# Altium footprint library FootprintsPersonals.PcbLib: 152 footprints (part 7 of 10)
Each footprint in its own frame and in the unit in brackets; x right, y up, seen from the top. Pads: shape width x height; smd on the part's side, far side on the other; paste and mask are expansions set on the pad; w line width, h text height; cw(c..) or ccw(c..) is an arc to the next point about the centre after c.
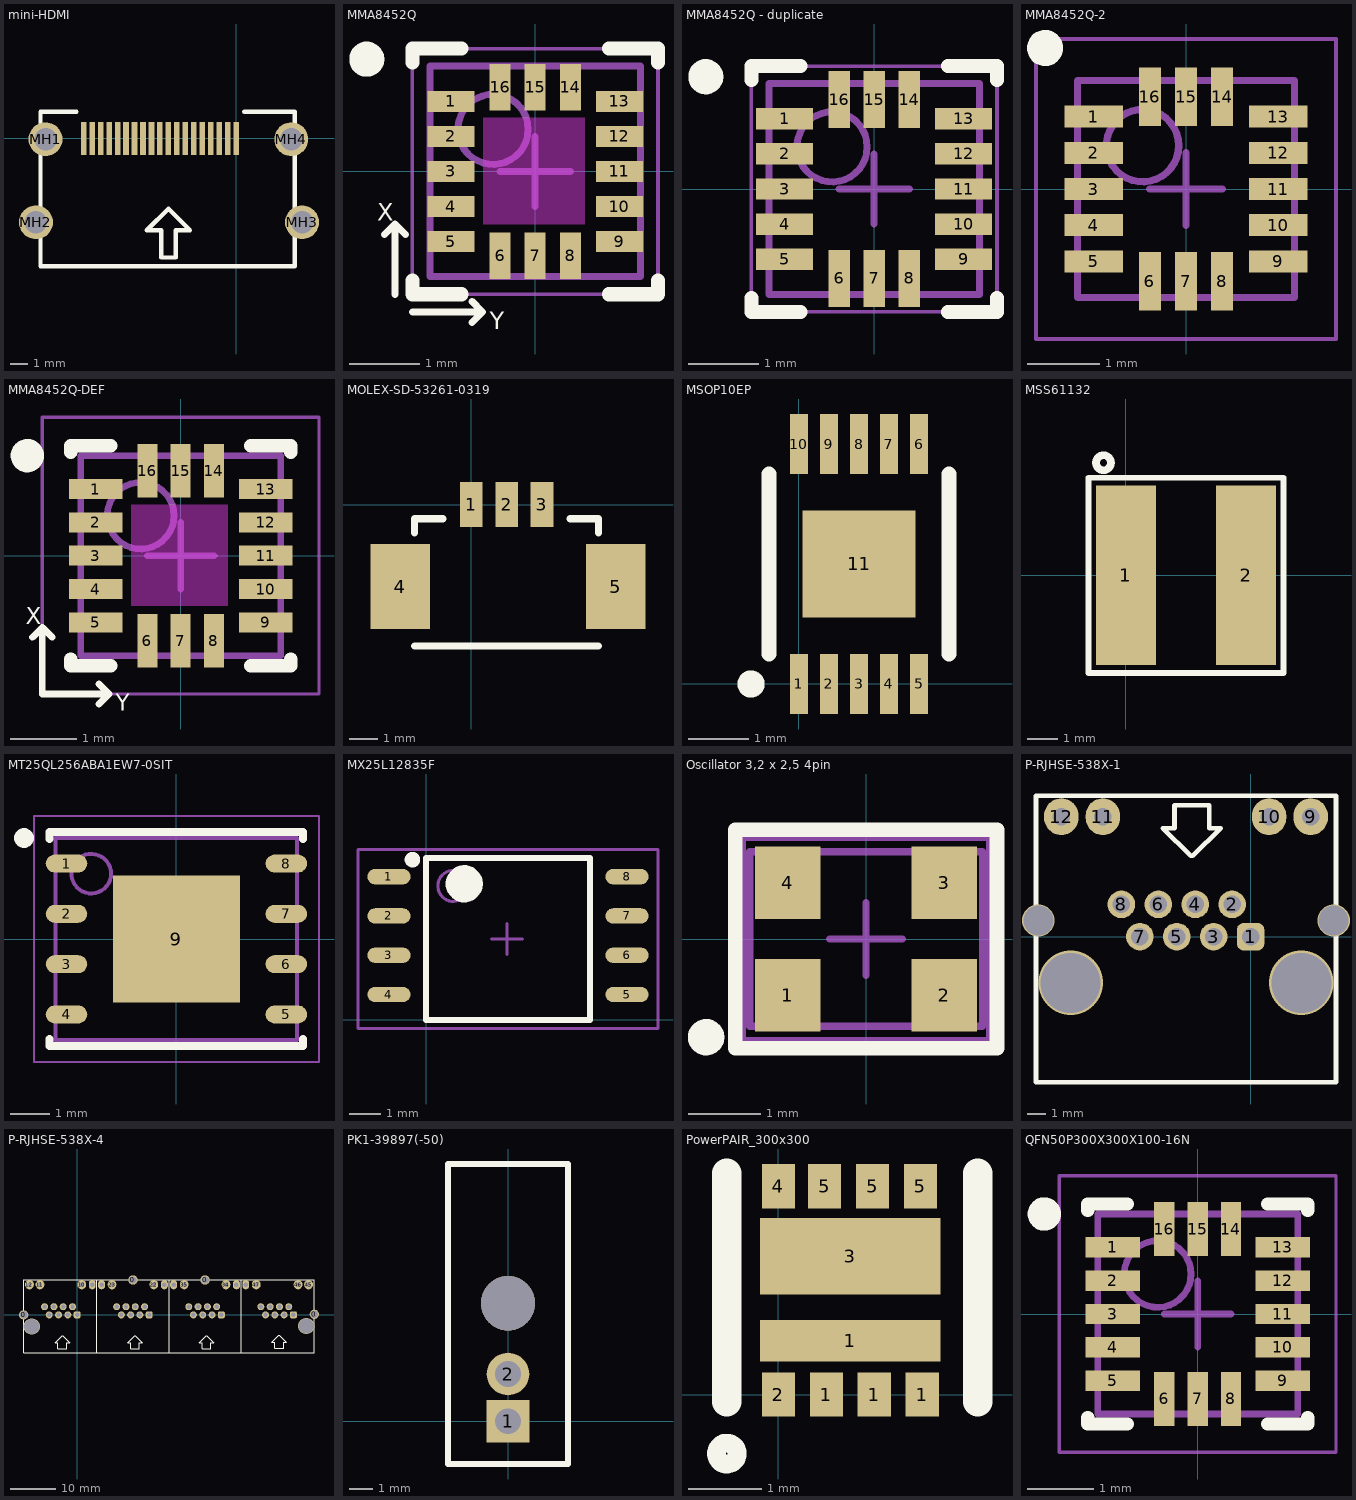
[diagram p6: the footprints below, top view; thin cyan lines are the x and y axes]

## mini-HDMI [mm] "Connector; mini-HDMI, SM, 19 Position, Right Angle, Body 7.9 x 11.2 x 3.3 mm (LxWxH)"
height 3.3
pads (23):
  rect 0.33x1.95 smd: 1(0,0) 2(-0.5,0) 3(-1,0) 4(-1.5,0) 5(-2,0) 6(-2.5,0) 7(-3,0) 8(-3.5,0) 9(-4,0) 10(-4.5,0) 11(-5,0) 12(-5.5,0) 13(-6,0) 14(-6.5,0) 15(-7,0) 16(-7.5,0) 17(-8,0) 18(-8.5,0) 19(-9,0)
  round 2 hole 1.33: MH1(-11.25,-0.05) MH2(-11.815,-4.95) MH3(3.885,-4.95) MH4(3.25,-0.05)
Top Overlay:
  lines w0.254: -11.55,-7.55 3.45,-7.55 ; -11.55,-7.525 -11.55,1.575 -9.425,1.575 ; 0.475,1.575 3.45,1.575 3.45,-7.525 ; -5.275,-5.425 -4.675,-5.425 -4.425,-5.425 -4.425,-7.025 -4,-7.025 -3.575,-7.025 -3.575,-5.425 -3.325,-5.425 -2.725,-5.425 -4,-4.15 -5.275,-5.425

## MMA8452Q [mm] "PQFN, 16-Leads, Body 3,00x3,00mm, Pitch 0,50mm, IPC Medium Density"
height 1
pads (16):
  rect 0.667x0.3 smd paste-0.013 mask+0.05: 1(-1.2,1) 2(-1.2,0.5) 3(-1.2,0) 4(-1.2,-0.5) 5(-1.2,-1) 9(1.2,-1) 10(1.2,-0.5) 11(1.2,0) 12(1.2,0.5) 13(1.2,1)
  rect 0.3x0.667 smd paste-0.013 mask+0.05: 6(-0.5,-1.2) 7(0,-1.2) 8(0.5,-1.2) 14(0.5,1.2) 15(0,1.2) 16(-0.5,1.2)
Top Overlay:
  circle w0.25: c-2.4,1.6 r0.125
  lines w0.1: -2.15,-0.9 -2,-0.75 ; -2,-1.75 -2,-0.75 ; -1.85,-0.9 -2,-0.75 ; -1.75,-2 -0.75,-2 ; -0.9,-2.15 -0.75,-2 ; -0.9,-1.85 -0.75,-2
  lines w0.2: -1.75,-1.552 -1.75,-1.75 -1.053,-1.75 ; -1.75,1.553 -1.75,1.75 -1.053,1.75 ; 1.052,-1.75 1.75,-1.75 1.75,-1.552 ; 1.052,1.75 1.75,1.75 1.75,1.553
  text "Y" at -0.65,-2.25 h0.25
  text "X" at -2.25,-0.7 h0.25
Keep-Out Layer:
  rectangle: -0.745,-0.755 0.71,0.77
Mechanical 13:
  circle w0.1: c-0.6,0.6 r0.5
  lines w0.1: -1.5,-1.5 1.5,-1.5 1.5,1.5 -1.5,1.5 -1.5,-1.5
Mechanical 15:
  lines w0.05: -1.75,-1.75 1.75,-1.75 1.75,1.75 -1.75,1.75 -1.75,-1.75
  lines w0.1: -0.5,0 0.5,0 ; 0,-0.5 0,0.5
3D body "MMA8452Q.step": height 1, standoff 0, extent -1.5,-1.5 1.5,1.5

## MMA8452Q - duplicate [mm] "PQFN, 16-Leads, Body 3,00x3,00mm, Pitch 0,50mm, IPC Medium Density"
height 1
pads (16):
  rect 0.813x0.305 smd paste-0.013 mask+0.05: 1(-1.275,1) 2(-1.275,0.5) 3(-1.275,0) 4(-1.275,-0.5) 5(-1.275,-1) 9(1.275,-1) 10(1.275,-0.5) 11(1.275,0) 12(1.275,0.5) 13(1.275,1)
  rect 0.305x0.813 smd paste-0.013 mask+0.05: 6(-0.5,-1.275) 7(0,-1.275) 8(0.5,-1.275) 14(0.5,1.275) 15(0,1.275) 16(-0.5,1.275)
Top Overlay:
  circle w0.25: c-2.4,1.6 r0.125
  lines w0.2: -1.75,-1.552 -1.75,-1.75 -1.053,-1.75 ; -1.75,1.553 -1.75,1.75 -1.053,1.75 ; 1.052,-1.75 1.75,-1.75 1.75,-1.552 ; 1.052,1.75 1.75,1.75 1.75,1.553
Mechanical 13:
  circle w0.1: c-0.6,0.6 r0.5
  lines w0.1: -1.5,-1.5 -1.5,1.5 1.5,1.5 1.5,-1.5 -1.5,-1.5
Mechanical 15:
  lines w0.05: -1.75,-1.75 -1.75,1.75 1.75,1.75 1.75,-1.75 -1.75,-1.75
  lines w0.1: -0.5,0 0.5,0 ; 0,-0.5 0,0.5
3D body "MMA8452Q.step": height 1, standoff 0, extent -1.5,-1.5 1.5,1.5

## MMA8452Q-2 [mm] "QFN, 16-Leads, Body 3,00x3,00mm, Pitch 0,50mm, IPC Medium Density"
height 1
pads (16):
  rect 0.813x0.305 smd: 1(-1.275,1) 2(-1.275,0.5) 3(-1.275,0) 4(-1.275,-0.5) 5(-1.275,-1) 9(1.275,-1) 10(1.275,-0.5) 11(1.275,0) 12(1.275,0.5) 13(1.275,1)
  rect 0.305x0.813 smd: 6(-0.5,-1.275) 7(0,-1.275) 8(0.5,-1.275) 14(0.5,1.275) 15(0,1.275) 16(-0.5,1.275)
Top Overlay:
  circle w0.25: c-1.95,1.95 r0.125
Mechanical 13:
  circle w0.1: c-0.6,0.6 r0.5
  lines w0.1: -1.5,-1.5 -1.5,1.5 1.5,1.5 1.5,-1.5 -1.5,-1.5
Mechanical 15:
  lines w0.05: -2.075,-2.075 -2.075,2.075 2.075,2.075 2.075,-2.075 -2.075,-2.075
  lines w0.1: -0.5,0 0.5,0 ; 0,-0.5 0,0.5
3D body "MMA8452Q-2.step": height 1, standoff 0, extent -1.501,-1.501 1.501,1.501

## MMA8452Q-DEF [mm] "QFN, 16-Leads, Body 3,00x3,00mm, Pitch 0,50mm, IPC Medium Density"
height 1
pads (16):
  rect 0.8x0.3 smd: 1(-1.275,1) 2(-1.275,0.5) 3(-1.275,0) 4(-1.275,-0.5) 5(-1.275,-1) 9(1.275,-1) 10(1.275,-0.5) 11(1.275,0) 12(1.275,0.5) 13(1.275,1)
  rect 0.3x0.8 smd: 6(-0.5,-1.275) 7(0,-1.275) 8(0.5,-1.275) 14(0.5,1.275) 15(0,1.275) 16(-0.5,1.275)
Top Overlay:
  circle w0.25: c-2.3,1.5 r0.125
  lines w0.1: -2.225,-1.225 -2.075,-1.075 ; -1.925,-1.225 -2.075,-1.075 ; -1.225,-2.225 -1.075,-2.075 ; -1.225,-1.925 -1.075,-2.075 ; -2.075,-1.075 -2.075,-2.075 -1.075,-2.075
  lines w0.2: -1.65,-1.55 -1.65,-1.65 -1.05,-1.65 ; -1.65,1.55 -1.65,1.65 -1.05,1.65 ; 1.05,-1.65 1.65,-1.65 1.65,-1.55 ; 1.05,1.65 1.65,1.65 1.65,1.55
  text "X" at -2.325,-1.025 h0.25
  text "Y" at -0.975,-2.325 h0.25
Keep-Out Layer:
  rectangle: -0.745,-0.755 0.71,0.77
Mechanical 13:
  circle w0.1: c-0.6,0.6 r0.5
  lines w0.1: -1.5,-1.5 1.5,-1.5 1.5,1.5 -1.5,1.5 -1.5,-1.5
Mechanical 15:
  lines w0.05: -2.075,-2.075 2.075,-2.075 2.075,2.075 -2.075,2.075 -2.075,-2.075
  lines w0.1: -0.5,0 0.5,0 ; 0,-0.5 0,0.5
3D body "MMA8452Q-DEF.step": height 1, standoff 0, extent -1.501,-1.501 1.501,1.501

## MOLEX-SD-53261-0319 [mm] "MOLEX-SD-53261-0319"
pads (5):
  rect 0.8x1.6 smd: 1(0,0) 2(1.25,0) 3(2.5,0)
  rect 2.1x3 smd: 4(-2.5,-2.9) 5(5.1,-2.9)
Top Overlay:
  lines w0.254: -2,-5 4.5,-5 ; -2,-1 -2,-0.5 -1,-0.5 ; 3.5,-0.5 4.5,-0.5 4.5,-1

## MSOP10EP [mm]
pads (11):
  rect 0.305x1 smd: 1(0,0) 2(0.5,0) 3(1,0) 4(1.5,0) 5(2,0) 6(2,4) 7(1.5,4) 8(1,4) 9(0.5,4) 10(0,4)
  rect 1.88x1.782 smd: 11(1,2)
Top Overlay:
  circle w0.254: c-0.8,0 r0.1
  lines w0.254: -0.5,0.5 -0.5,3.5 ; 2.5,0.5 2.5,3.5
3D body: height 1.1, standoff 0, extent -0.5,0.5 2.5,3.5

## MSS61132 [mm] "Coilcraft Inductor"
pads (2):
  rect 2x6 smd: 1(0,0) 2(4,0)
Top Overlay:
  circle w0.254: c-0.75,3.75 r0.25
  lines w0.2: -1.25,-3.25 -1,-3.25 5,-3.25 5.25,-3.25 5.25,-3 5.25,3 5.25,3.25 -1.25,3.25 -1.25,-3.25
3D body: height 3.2, standoff 0, extent -0.7,-2.8 4.8,2.7

## MT25QL256ABA1EW7-0SIT [mm] "QFN, 8-Leads, Body 6,00x5,00mm, Pitch 1,27mm, Thermal Pad 3,20x3,20mm, IPC Medium Density"
height 1
pads (9):
  oval 1.05x0.45 smd: 1(-2.775,1.905) 2(-2.775,0.635) 3(-2.775,-0.635) 4(-2.775,-1.905) 5(2.775,-1.905) 6(2.775,-0.635) 7(2.775,0.635) 8(2.775,1.905)
  rect 3.2x3.2 smd: 9(0,0)
Top Overlay:
  circle w0.25: c-3.85,2.55 r0.125
  lines w0.2: -3.2,-2.53 -3.2,-2.7 0.01,-2.7 ; -3.2,2.53 -3.2,2.7 0.01,2.7 ; -0.01,-2.7 3.2,-2.7 3.2,-2.53 ; -0.01,2.7 3.2,2.7 3.2,2.53
Mechanical 13:
  circle w0.1: c-2.15,1.65 r0.5
  lines w0.1: -3.05,-2.55 -3.05,2.55 3.05,2.55 3.05,-2.55 -3.05,-2.55
Mechanical 15:
  lines w0.05: -3.6,-3.1 -3.6,3.1 3.6,3.1 3.6,-3.1 -3.6,-3.1
  lines w0.1: -0.5,0 0.5,0 ; 0,-0.5 0,0.5
3D body "MT25QL256ABA1EW7-0SIT.step": height 1, standoff 0, extent -3.051,-2.55 3.051,2.55

## MX25L12835F [mm] "SOIC, 8-Leads, Body 5.3x7.5mm, Pitch 1.27mm, IPC Medium Density"
height 2.65
pads (8):
  oval 1.4x0.5 smd: 1(-1.2,4.63) 2(-1.2,3.36) 3(-1.2,2.09) 4(-1.2,0.82) 5(6.5,0.82) 6(6.5,2.09) 7(6.5,3.36) 8(6.5,4.63)
Top Overlay:
  circle w0.25: c-0.44,5.18 r0.125
  circle w0.6: c1.235,4.4 r0.3
  lines w0.2: 0,0 0,5.23 5.3,5.23 5.3,0 0,0
Mechanical 13:
  circle w0.1: c0.88,4.33 r0.5
  lines w0.1: 0,0 5.3,0 5.3,5.23 0,5.23 0,0
Mechanical 15:
  lines w0.1: 2.115,2.615 3.115,2.615 ; 2.615,2.115 2.615,3.115 ; -2.2,-0.275 -2.2,5.505 7.5,5.505 7.5,-0.275 -2.2,-0.275
3D body: height 2.65, standoff 0, extent 0,0 5.3,5.23

## Oscillator 3,2 x 2,5 4pin [mm]
height 1.1
pads (4):
  rect 0.9x1 smd: 1(-1.075,-0.775) 2(1.075,-0.775) 3(1.075,0.775) 4(-1.075,0.775)
Top Overlay:
  circle w0.25: c-2.2,-1.35 r0.125
  lines w0.2: -1.8,-1.5 -1.8,1.5 1.8,1.5 1.8,-1.5 -1.8,-1.5
Mechanical 13:
  lines w0.1: -1.6,-1.2 -1.6,1.2 1.6,1.2 1.6,-1.2 -1.6,-1.2
Mechanical 15:
  lines w0.1: -0.5,0 0.5,0 ; 0,-0.5 0,0.5 ; -1.7,-1.4 -1.7,1.4 1.7,1.4 1.7,-1.4 -1.7,-1.4
3D body: height 0.8, standoff 0, extent -1.6,-1.2 1.6,1.2

## P-RJHSE-538X-1 [mil]
pads (12):
  rrect50% 60x60 hole 38: 1(0,0)
  round 60 hole 38: 2(-40,70) 3(-80,0) 4(-120,70) 5(-160,0) 6(-200,70) 7(-240,0) 8(-280,70)
  oval 75x80 hole 38: 9(130,260) 10(40,260) 11(-320,260) 12(-410,260)
via -460,35 diameter 70 hole 65
via -390,-100 diameter 140 hole 130
via 110,-100 diameter 140 hole 130
via 180,35 diameter 70 hole 65
Top Overlay:
  lines w10: -410,260 -405,260 ; -465,-315 185,-315 185,305 -465,305 -465,-315 ; -190,235 -165,235 -165,285 -90,285 -90,235 -65,235 -125,175 -130,175 -190,235

## P-RJHSE-538X-4 [mil]
pads (52):
  round 80 hole 64: 0(-460,0) 0(480,300) 0(1100,300) 0(2040,5)
  rrect50% 60x60 hole 38: 1(0,0) 13(620,0) 25(1240,0) 37(1860,0)
  round 60 hole 38: 2(-40,70) 3(-80,0) 4(-120,70) 5(-160,0) 6(-200,70) 7(-240,0) 8(-280,70) 14(580,70) 15(540,0) 16(500,70) 17(460,0) 18(420,70) 19(380,0) 20(340,70) 26(1200,70) 27(1160,0) 28(1120,70) 29(1080,0) 30(1040,70) 31(1000,0) 32(960,70) 38(1820,70) 39(1780,0) 40(1740,70) 41(1700,0) 42(1660,70) 43(1620,0) 44(1580,70)
  oval 60x80 hole 38: 9(130,260) 21(750,260) 24(210,260) 33(1370,260) 36(830,260) 48(1450,260)
  oval 75x80 hole 38: 10(40,260) 11(-320,260) 12(-410,260) 22(660,260) 23(300,260) 34(1280,260) 35(920,260) 45(1990,260) 46(1900,260) 47(1540,260)
via 1970,-95 diameter 140 hole 130
via -390,-100 diameter 140 hole 130
Top Overlay:
  lines w10: -410,260 -405,260 ; 170,-325 170,295 ; 790,-325 790,295 ; 1410,-320 1410,295 ; -460,-325 -460,300 2040,300 2040,-325 -460,-325 ; -190,-240 -130,-180 -125,-180 -65,-240 -90,-240 -90,-290 -165,-290 -165,-240 -190,-240 ; 435,-240 495,-180 500,-180 560,-240 535,-240 535,-290 460,-290 460,-240 435,-240 ; 1050,-240 1110,-180 1115,-180 1175,-240 1150,-240 1150,-290 1075,-290 1075,-240 1050,-240 ; 1675,-235 1735,-175 1740,-175 1800,-235 1775,-235 1775,-285 1700,-285 1700,-235 1675,-235

## PK1-39897(-50) [mm] "Connector acolzat de plastik one"
height 9
pads (2):
  rect 1.8x1.8 hole 1.1: 1(0,0)
  round 1.8 hole 1.1: 2(0,2)
via 0,5 diameter 2.3 hole 2.3
Top Overlay:
  lines w0.254: -2.54,-1.81 2.54,-1.81 2.54,10.89 -2.54,10.89 -2.54,-1.81
3D body: height 8.89, standoff 0, extent -2.54,-1.81 2.54,10.89

## PowerPAIR_300x300 [mm]
pads (10):
  rect 0.45x0.6 smd: 1(0.65,0) 1(1.3,0) 1(1.95,0) 2(0,0) 4(0,2.825) 5(0.625,2.825) 5(1.275,2.825) 5(1.925,2.825)
  rect 2.45x0.562 smd: 1(0.975,0.729)
  rect 2.45x1.036 smd: 3(0.975,1.876)
Top Overlay:
  circle w0.254: c-0.7,-0.8 r0.141
  lines w0.4: -0.7,-0.1 -0.7,3 ; 2.7,-0.1 2.7,3
3D body: height 0.8, standoff 0, extent -0.5,-0.1 2.5,2.9

## QFN50P300X300X100-16N [mm] "QFN, 16-Leads, Body 3,00x3,00mm, Pitch 0,50mm, IPC Medium Density"
height 1
pads (16):
  rect 0.813x0.305 smd paste-0.026 mask+0.102: 1(-1.275,1) 2(-1.275,0.5) 3(-1.275,0) 4(-1.275,-0.5) 5(-1.275,-1) 9(1.275,-1) 10(1.275,-0.5) 11(1.275,0) 12(1.275,0.5) 13(1.275,1)
  rect 0.305x0.813 smd paste-0.026 mask+0.102: 6(-0.5,-1.275) 7(0,-1.275) 8(0.5,-1.275) 14(0.5,1.275) 15(0,1.275) 16(-0.5,1.275)
Top Overlay:
  circle w0.25: c-2.3,1.5 r0.125
  lines w0.2: -1.65,-1.552 -1.65,-1.65 -1.053,-1.65 ; -1.65,1.553 -1.65,1.65 -1.053,1.65 ; 1.052,-1.65 1.65,-1.65 1.65,-1.552 ; 1.052,1.65 1.65,1.65 1.65,1.553
Mechanical 13:
  circle w0.1: c-0.6,0.6 r0.5
  lines w0.1: -1.5,-1.5 -1.5,1.5 1.5,1.5 1.5,-1.5 -1.5,-1.5
Mechanical 15:
  lines w0.05: -2.075,-2.075 -2.075,2.075 2.075,2.075 2.075,-2.075 -2.075,-2.075
  lines w0.1: -0.5,0 0.5,0 ; 0,-0.5 0,0.5
3D body "QFN50P300X300X100-16N.step": height 1, standoff 0, extent -1.55,-1.55 1.55,1.55